# Altium footprint library SM_L_5040.PcbLib: 1 footprints
Each footprint in its own frame and in the unit in brackets; x right, y up, seen from the top. Pads: shape width x height; smd on the part's side, far side on the other; paste and mask are expansions set on the pad; w line width, h text height; cw(c..) or ccw(c..) is an arc to the next point about the centre after c.
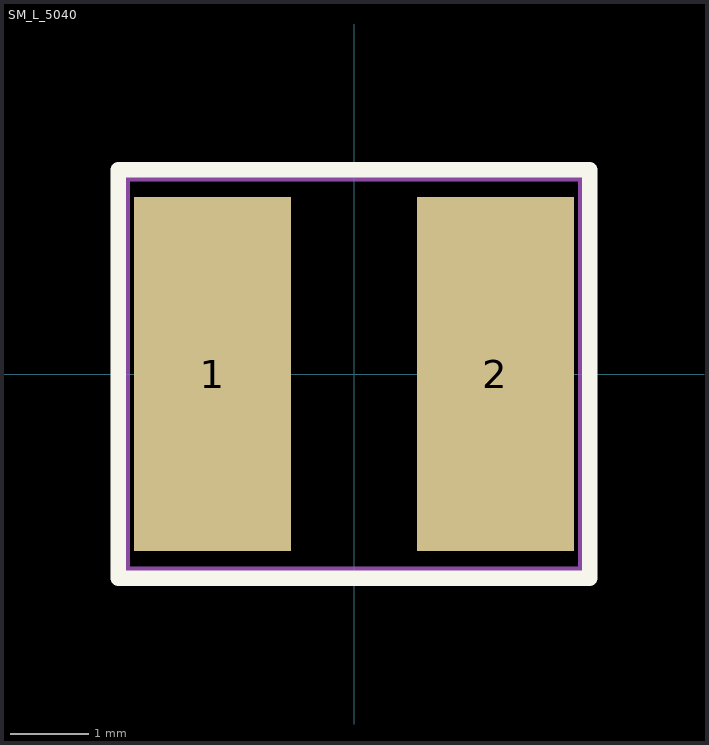
[diagram p0: the footprint, top view; thin cyan lines are the x and y axes]

## SM_L_5040 [mm]
height 4
pads (2):
  rect 2x4.5 smd: 1(-1.8,0) 2(1.8,0)
Top Overlay:
  lines w0.2: -3,-2.6 3,-2.6 3,2.6 -3,2.6 -3,-2.6
Mechanical 1:
  lines w0.1: -2.9,-2.5 -2.9,2.5 2.9,2.5 2.9,-2.5 -2.9,-2.5
3D body "SRN5040 series.stp": height 3.42, standoff -0.02, extent -2.5,-2.51 2.502,2.51